# Altium footprint library 36-3084TR-ND.PcbLib: 1 footprints
Each footprint in its own frame and in the unit in brackets; x right, y up, seen from the top. Pads: shape width x height; smd on the part's side, far side on the other; paste and mask are expansions set on the pad; w line width, h text height; cw(c..) or ccw(c..) is an arc to the next point about the centre after c.
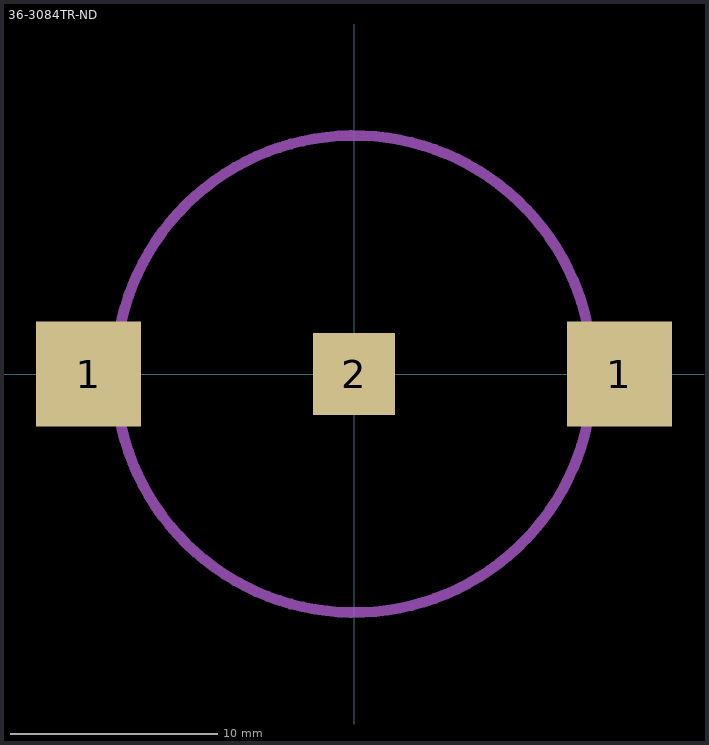
[diagram p0: the footprint, top view; thin cyan lines are the x and y axes]

## 36-3084TR-ND [mm] "RTC Battery Holder"
height 3.96
pads (3):
  rect 5.08x5.08 smd: 1(-12.8,0) 1(12.8,0)
  rect 3.96x3.96 smd: 2(0,0)
Mechanical 1:
  circle w0.508: c0,0 r11.5
3D body "3084TR.STEP": height 3.96, standoff 0, extent -17.284,-11.976 16.726,9.152